# Altium footprint library Melf.PcbLib: 1 footprints
Each footprint in its own frame and in the unit in brackets; x right, y up, seen from the top. Pads: shape width x height; smd on the part's side, far side on the other; paste and mask are expansions set on the pad; w line width, h text height; cw(c..) or ccw(c..) is an arc to the next point about the centre after c.
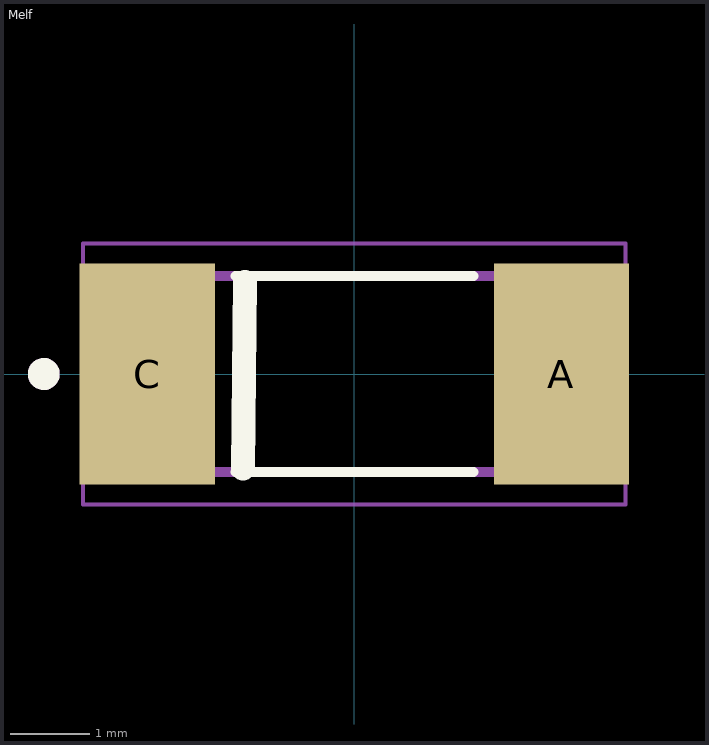
[diagram p0: the footprint, top view; thin cyan lines are the x and y axes]

## Melf [mm]
pads (2):
  rect 1.7x2.78 smd: A(2.6,0) C(-2.6,0)
Top Overlay:
  circle w0.2: c-3.9,0 r0.1
  lines w0.127: -1.495,-1.23 1.495,-1.23 ; -1.495,1.23 1.495,1.23
  lines w0.3: -1.399,-1.187 -1.372,1.158
Mechanical 13:
  circle w0.2: c-3.9,0 r0.1
  lines w0.127: -2.575,-1.23 -2.575,1.23 2.575,1.23 2.575,-1.23 -2.575,-1.23
Mechanical 15:
  lines w0.05: -3.405,-1.64 -3.405,1.64 3.405,1.64 3.405,-1.64 -3.405,-1.64
3D body "ZM4740A L0.STEP": height 1.34, standoff -1.34, extent -2.702,-1.273 2.448,1.397